# EAGLE library part VS1033 (library adafruit_mod)
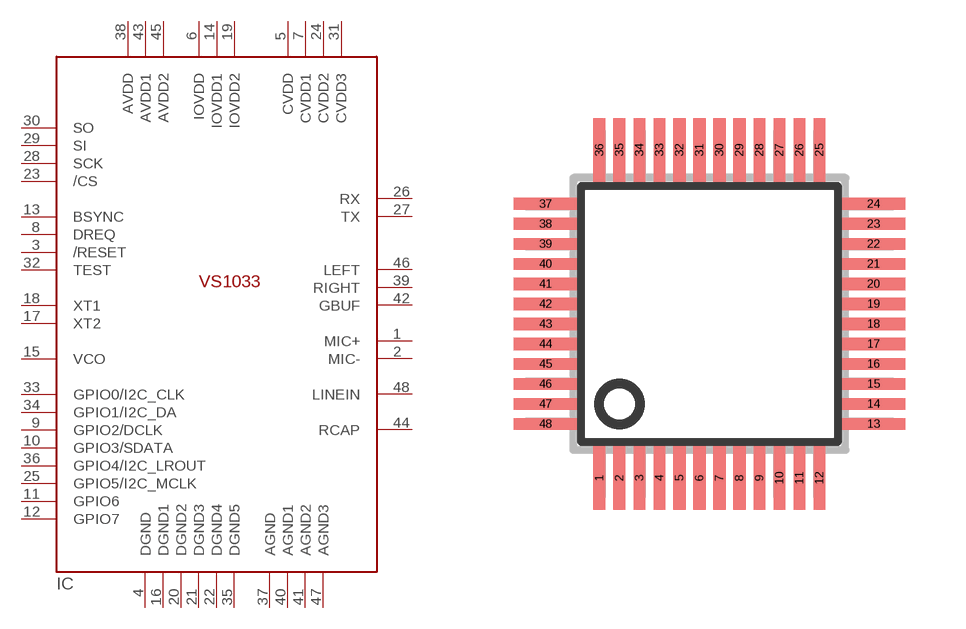
[diagram p38: symbol with the pads of SQFP-S-7X7-48; footprint SQFP-S-7X7-48]

Designator prefix IC

## VS1033  [SQFP-S-7X7-48]
1  MIC+  in
2  MIC-  in
3  /RESET  in
4  DGND  pwr
5  CVDD  pwr
6  IOVDD  pwr
7  CVDD1  pwr
8  DREQ  out
9  GPIO2/DCLK
10  GPIO3/SDATA
11  GPIO6
12  GPIO7
13  BSYNC  in
14  IOVDD1  pwr
15  VCO  out
16  DGND1  pwr
17  XT2  pas
18  XT1  pas
19  IOVDD2  pwr
20  DGND2  pwr
21  DGND3  pwr
22  DGND4  pwr
23  /CS  in
24  CVDD2  pwr
25  GPIO5/I2C_MCLK
26  RX  in
27  TX  out
28  SCK  in
29  SI  in
30  SO  out
31  CVDD3  pwr
32  TEST  in
33  GPIO0/I2C_CLK
34  GPIO1/I2C_DA
35  DGND5  pwr
36  GPIO4/I2C_LROUT
37  AGND  pwr
38  AVDD  pwr
39  RIGHT  out
40  AGND1  pwr
41  AGND2  pwr
42  GBUF  out
43  AVDD1  pwr
44  RCAP  pas
45  AVDD2  pwr
46  LEFT  out
47  AGND3  pwr
48  LINEIN  in

## Footprint SQFP-S-7X7-48 (pad centres in mm)
QFP48 shrink quad flat pack, square
smd 0.3 x 1.6: 1 -2.75,-4.1; 2 -2.25,-4.1; 3 -1.75,-4.1; 4 -1.25,-4.1; 5 -0.75,-4.1; 6 -0.25,-4.1; 7 0.25,-4.1; 8 0.75,-4.1; 9 1.25,-4.1; 10 1.75,-4.1; 11 2.25,-4.1; 12 2.75,-4.1; 25 2.75,4.1; 26 2.25,4.1; 27 1.75,4.1; 28 1.25,4.1; 29 0.75,4.1; 30 0.25,4.1; 31 -0.25,4.1; 32 -0.75,4.1; 33 -1.25,4.1; 34 -1.75,4.1; 35 -2.25,4.1; 36 -2.75,4.1
smd 1.6 x 0.3: 13 4.1,-2.75; 14 4.1,-2.25; 15 4.1,-1.75; 16 4.1,-1.25; 17 4.1,-0.75; 18 4.1,-0.25; 19 4.1,0.25; 20 4.1,0.75; 21 4.1,1.25; 22 4.1,1.75; 23 4.1,2.25; 24 4.1,2.75; 37 -4.1,2.75; 38 -4.1,2.25; 39 -4.1,1.75; 40 -4.1,1.25; 41 -4.1,0.75; 42 -4.1,0.25; 43 -4.1,-0.25; 44 -4.1,-0.75; 45 -4.1,-1.25; 46 -4.1,-1.75; 47 -4.1,-2.25; 48 -4.1,-2.75